# Altium footprint library AMP Mini CT.PcbLib: 6 footprints
Each footprint in its own frame and in the unit in brackets; x right, y up, seen from the top. Pads: shape width x height; smd on the part's side, far side on the other; paste and mask are expansions set on the pad; w line width, h text height; cw(c..) or ccw(c..) is an arc to the next point about the centre after c.
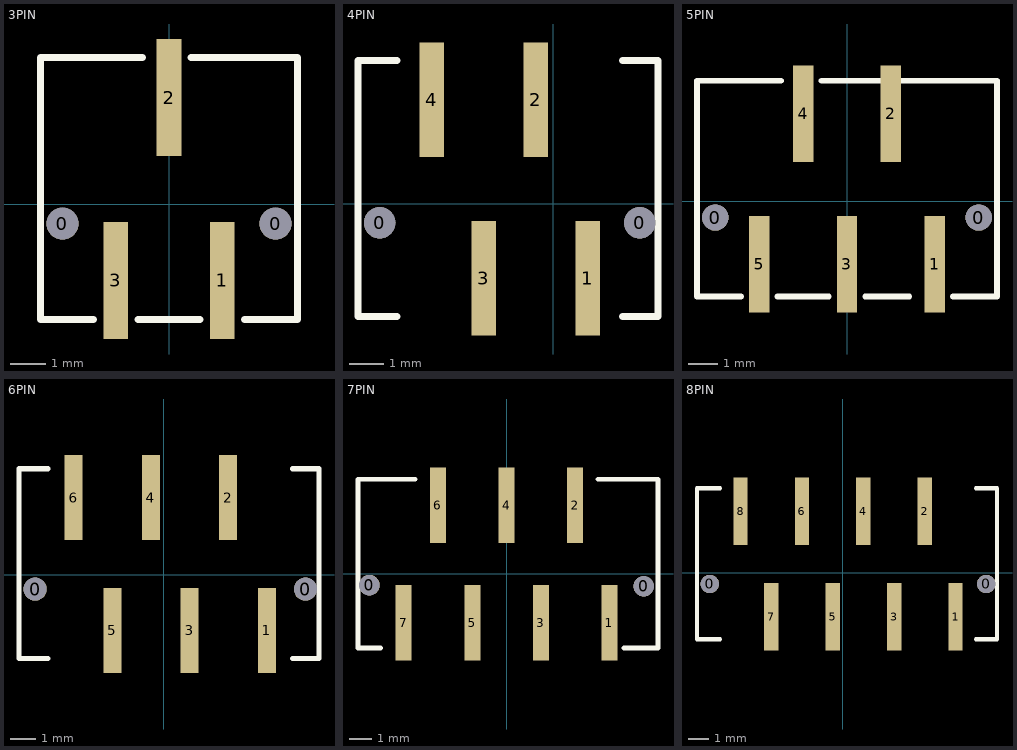
[diagram p0: the footprints below, top view; thin cyan lines are the x and y axes]

## 3PIN [mm]
pads (5):
  round 0.9 hole 0.9: 0(-3,-0.55) 0(3,-0.55)
  rect 0.7x3.3 smd: 1(1.5,-2.15) 2(0,3) 3(-1.5,-2.15)
Top Overlay:
  lines w0.2: -2.125,-3.25 -3.625,-3.25 -3.625,4.125 -0.75,4.125 ; -0.875,-3.25 0.875,-3.25 ; 0.625,4.125 3.625,4.125 3.625,-3.25 2.125,-3.25
3D body: height 6.9, standoff -0.8, extent -3.525,-3.15 3.475,4.05

## 4PIN [mm]
pads (6):
  round 0.9 hole 0.9: 0(-5,-0.55) 0(2.5,-0.55)
  rect 0.7x3.3 smd: 1(1,-2.15) 2(-0.5,3) 3(-2,-2.15) 4(-3.5,3)
Top Overlay:
  lines w0.2: -4.5,-3.25 -5.625,-3.25 -5.625,4.125 -4.5,4.125 ; 2,-3.25 3.025,-3.25 3.025,4.125 2,4.125
3D body: height 6.9, standoff -0.8, extent -5.525,-3.15 2.975,4.05

## 5PIN [mm]
pads (7):
  round 0.9 hole 0.9: 0(-4.5,-0.55) 0(4.5,-0.55)
  rect 0.7x3.3 smd: 1(3,-2.15) 2(1.5,3) 3(0,-2.15) 4(-1.5,3) 5(-3,-2.15)
Top Overlay:
  lines w0.2: -3.625,-3.25 -5.125,-3.25 -5.125,4.125 -2.25,4.125 ; -2.375,-3.25 -0.625,-3.25 ; -0.875,4.125 5.125,4.125 5.125,-3.25 3.625,-3.25 ; 0.625,-3.25 2.125,-3.25
3D body: height 6.9, standoff -0.8, extent -5.025,-3.15 4.975,4.05

## 6PIN [mm]
pads (8):
  round 0.9 hole 0.9: 0(-5,-0.55) 0(5.5,-0.55)
  rect 0.7x3.3 smd: 1(4,-2.15) 2(2.5,3) 3(1,-2.15) 4(-0.5,3) 5(-2,-2.15) 6(-3.5,3)
Top Overlay:
  lines w0.2: -4.5,-3.25 -5.625,-3.25 -5.625,4.125 -4.5,4.125 ; 5,-3.25 6.025,-3.25 6.025,4.125 5,4.125
3D body: height 6.9, standoff -0.8, extent -5.525,-3.15 5.975,4.05

## 7PIN [mm]
pads (9):
  round 0.9 hole 0.9: 0(-6,-0.5) 0(6,-0.55)
  rect 0.7x3.3 smd: 1(4.5,-2.15) 2(3,3) 3(1.5,-2.15) 4(0,3) 5(-1.5,-2.15) 6(-3,3) 7(-4.5,-2.15)
Top Overlay:
  lines w0.2: -5.5,-3.25 -6.5,-3.25 -6.5,4.125 -4,4.125 ; 4,4.125 6.625,4.125 6.625,-3.25 5.125,-3.25
3D body: height 6.9, standoff -0.8, extent -6.525,-3.15 6.475,4.05

## 8PIN [mm]
pads (10):
  round 0.9 hole 0.9: 0(-6.5,-0.55) 0(7,-0.55)
  rect 0.7x3.3 smd: 1(5.5,-2.15) 2(4,3) 3(2.5,-2.15) 4(1,3) 5(-0.5,-2.15) 6(-2,3) 7(-3.5,-2.15) 8(-5,3)
Top Overlay:
  lines w0.2: -6,-3.25 -7.125,-3.25 -7.125,4.125 -6,4.125 ; 6.5,-3.25 7.525,-3.25 7.525,4.125 6.5,4.125
3D body: height 6.9, standoff -0.8, extent -7.025,-3.15 7.475,4.05